# EAGLE library part MKW40Z160VHT4 (library mkw40z160vht4)
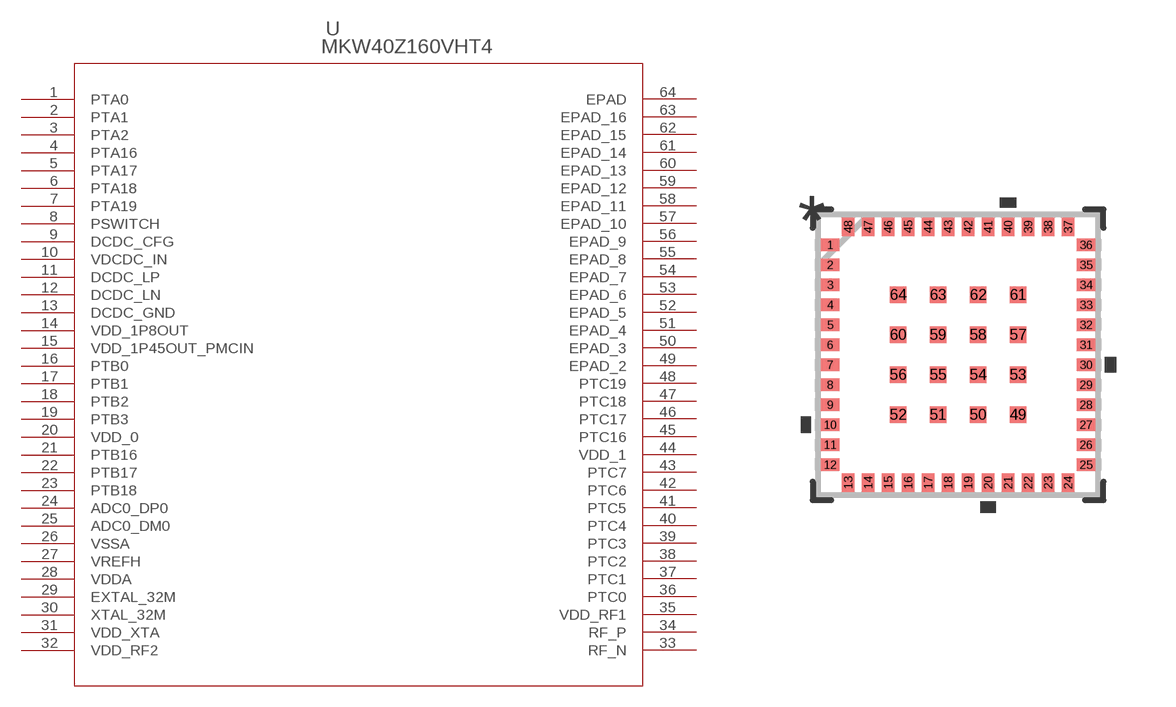
[diagram p0: symbol with the pads of 98ASA00694D; footprint 98ASA00694D]

Designator prefix U

## MKW40Z160VHT4 (MANUFACTURER_PART_NUMBER: mkw40z160vht4; VENDOR: Freescale)  [98ASA00694D]
1  PTA0  pas
2  PTA1  pas
3  PTA2  pas
4  PTA16  pas
5  PTA17  pas
6  PTA18  pas
7  PTA19  pas
8  PSWITCH  pas
9  DCDC_CFG  pas
10  VDCDC_IN  pas
11  DCDC_LP  pas
12  DCDC_LN  pas
13  DCDC_GND  pas
14  VDD_1P8OUT  pas
15  VDD_1P45OUT_PMCIN  pas
16  PTB0  pas
17  PTB1  pas
18  PTB2  pas
19  PTB3  pas
20  VDD_0  pwr
21  PTB16  pas
22  PTB17  pas
23  PTB18  pas
24  ADC0_DP0  pas
25  ADC0_DM0  pas
26  VSSA  pwr
27  VREFH  pwr
28  VDDA  pwr
29  EXTAL_32M  pas
30  XTAL_32M  pas
31  VDD_XTA  pas
32  VDD_RF2  pas
33  RF_N  pas
34  RF_P  pas
35  VDD_RF1  pas
36  PTC0  pas
37  PTC1  pas
38  PTC2  pas
39  PTC3  pas
40  PTC4  pas
41  PTC5  pas
42  PTC6  pas
43  PTC7  pas
44  VDD_1  pwr
45  PTC16  pas
46  PTC17  pas
47  PTC18  pas
48  PTC19  pas
49  EPAD_2  pas
50  EPAD_3  pas
51  EPAD_4  pas
52  EPAD_5  pas
53  EPAD_6  pas
54  EPAD_7  pas
55  EPAD_8  pas
56  EPAD_9  pas
57  EPAD_10  pas
58  EPAD_11  pas
59  EPAD_12  pas
60  EPAD_13  pas
61  EPAD_14  pas
62  EPAD_15  pas
63  EPAD_16  pas
64  EPAD  pas

## Footprint 98ASA00694D (pad centres in mm)
smd 0.457 x 0.305: 1 -3.2,2.75; 2 -3.2,2.25; 3 -3.2,1.75; 4 -3.2,1.25; 5 -3.2,0.75; 6 -3.2,0.25; 7 -3.2,-0.25; 8 -3.2,-0.75; 9 -3.2,-1.25; 10 -3.2,-1.75; 11 -3.2,-2.25; 12 -3.2,-2.75; 25 3.2,-2.75; 26 3.2,-2.25; 27 3.2,-1.75; 28 3.2,-1.25; 29 3.2,-0.75; 30 3.2,-0.25; 31 3.2,0.25; 32 3.2,0.75; 33 3.2,1.25; 34 3.2,1.75; 35 3.2,2.25; 36 3.2,2.75
smd 0.305 x 0.457: 13 -2.75,-3.2; 14 -2.25,-3.2; 15 -1.75,-3.2; 16 -1.25,-3.2; 17 -0.75,-3.2; 18 -0.25,-3.2; 19 0.25,-3.2; 20 0.75,-3.2; 21 1.25,-3.2; 22 1.75,-3.2; 23 2.25,-3.2; 24 2.75,-3.2; 37 2.75,3.2; 38 2.25,3.2; 39 1.75,3.2; 40 1.25,3.2; 41 0.75,3.2; 42 0.25,3.2; 43 -0.25,3.2; 44 -0.75,3.2; 45 -1.25,3.2; 46 -1.75,3.2; 47 -2.25,3.2; 48 -2.75,3.2
smd 0.406 x 0.406: 49 1.5,-1.5; 50 0.5,-1.5; 51 -0.5,-1.5; 52 -1.5,-1.5; 53 1.5,-0.5; 54 0.5,-0.5; 55 -0.5,-0.5; 56 -1.5,-0.5; 57 1.5,0.5; 58 0.5,0.5; 59 -0.5,0.5; 60 -1.5,0.5; 61 1.5,1.5; 62 0.5,1.5; 63 -0.5,1.5; 64 -1.5,1.5